# EAGLE library part 50223-060 (library con-aces-50223-series)
ACES CONNECTORS 50223 SERIES ACES Connecors 50223
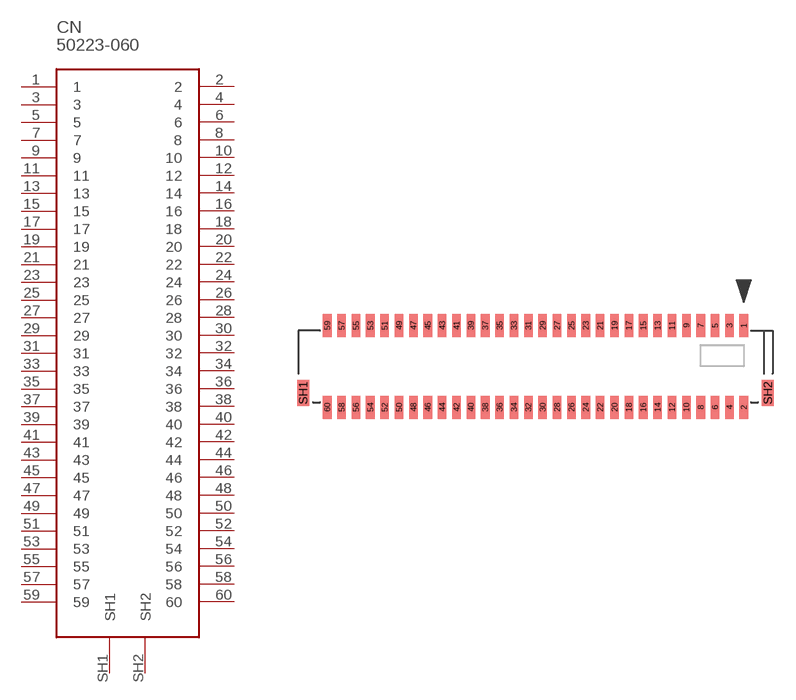
[diagram p11: symbol with the pads of 50223-060; footprint 50223-060]

Designator prefix CN

## 50223-060  [50223-060]
1  1
2  2
3  3
4  4
5  5
6  6
7  7
8  8
9  9
10  10
11  11
12  12
13  13
14  14
15  15
16  16
17  17
18  18
19  19
20  20
21  21
22  22
23  23
24  24
25  25
26  26
27  27
28  28
29  29
30  30
31  31
32  32
33  33
34  34
35  35
36  36
37  37
38  38
39  39
40  40
41  41
42  42
43  43
44  44
45  45
46  46
47  47
48  48
49  49
50  50
51  51
52  52
53  53
54  54
55  55
56  56
57  57
58  58
59  59
60  60
SH1  SH1
SH2  SH2

## Footprint 50223-060 (pad centres in mm)
smd 0.6 x 1.6: 1 14.5,2.85; 2 14.5,-2.85; 3 13.5,2.85; 4 13.5,-2.85; 5 12.5,2.85; 6 12.5,-2.85; 7 11.5,2.85; 8 11.5,-2.85; 9 10.5,2.85; 10 10.5,-2.85; 11 9.5,2.85; 12 9.5,-2.85; 13 8.5,2.85; 14 8.5,-2.85; 15 7.5,2.85; 16 7.5,-2.85; 17 6.5,2.85; 18 6.5,-2.85; 19 5.5,2.85; 20 5.5,-2.85; 21 4.5,2.85; 22 4.5,-2.85; 23 3.5,2.85; 24 3.5,-2.85; 25 2.5,2.85; 26 2.5,-2.85; 27 1.5,2.85; 28 1.5,-2.85; 29 0.5,2.85; 30 0.5,-2.85; 31 -0.5,2.85; 32 -0.5,-2.85; 33 -1.5,2.85; 34 -1.5,-2.85; 35 -2.5,2.85; 36 -2.5,-2.85; 37 -3.5,2.85; 38 -3.5,-2.85; 39 -4.5,2.85; 40 -4.5,-2.85; 41 -5.5,2.85; 42 -5.5,-2.85; 43 -6.5,2.85; 44 -6.5,-2.85; 45 -7.5,2.85; 46 -7.5,-2.85; 47 -8.5,2.85; 48 -8.5,-2.85; 49 -9.5,2.85; 50 -9.5,-2.85; 51 -10.5,2.85; 52 -10.5,-2.85; 53 -11.5,2.85; 54 -11.5,-2.85; 55 -12.5,2.85; 56 -12.5,-2.85; 57 -13.5,2.85; 58 -13.5,-2.85; 59 -14.5,2.85; 60 -14.5,-2.85
smd 0.85 x 1.8: SH1 -16.175,-1.85; SH2 16.175,-1.85